# Altium footprint library SMMS1360.PcbLib: 1 footprints
Each footprint in its own frame and in the unit in brackets; x right, y up, seen from the top. Pads: shape width x height; smd on the part's side, far side on the other; paste and mask are expansions set on the pad; w line width, h text height; cw(c..) or ccw(c..) is an arc to the next point about the centre after c.
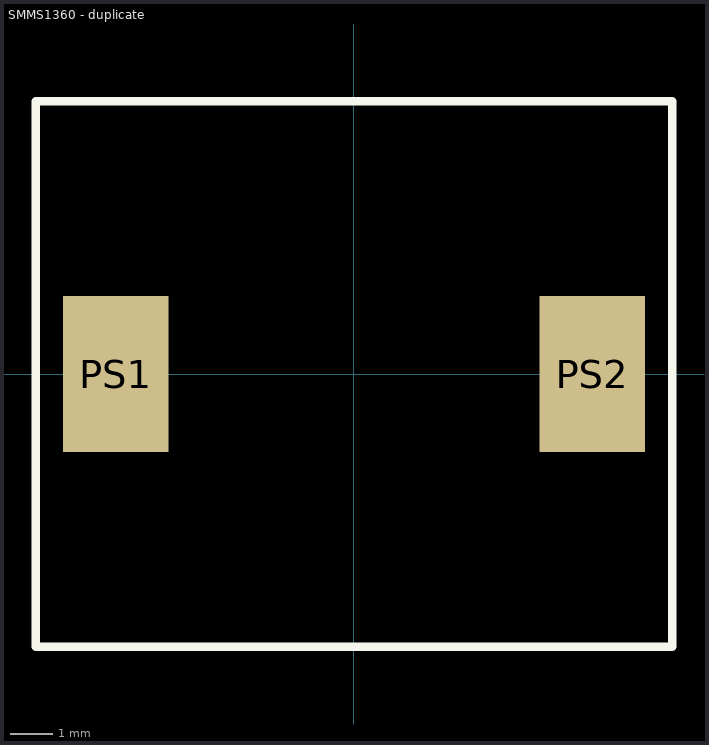
[diagram p0: the footprint, top view; thin cyan lines are the x and y axes]

## SMMS1360 - duplicate [mm]
pads (2):
  rect 2.5x3.7 smd: PS1(-5.65,0) PS2(5.65,0)
Top Overlay:
  lines w0.2: -7.55,-6.477 7.55,-6.477 7.55,6.477 -7.55,6.477 -7.55,0 -7.55,-6.477
3D body: height 7, standoff 0, extent -6.667,-5.715 6.668,5.715